# Altium schematic symbol library LDFM33PVR.SchLib: 1 symbol
Pins are listed as number, name and electrical type; pins without a type are passive.

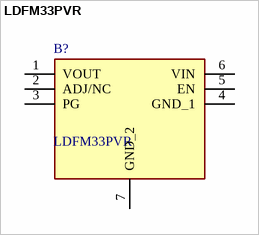
[diagram p0: symbol LDFM33PVR]

## LDFM33PVR
designator B?
LDO Voltage Regulators 500 mA very low drop voltage regulator; Manufacturer_Name: STMicroelectronics; Geometry.Height: 1mm; Mouser Part Number: 511-LDFM33PVR; Mouser Price/Stock: https://www.mouser.co.uk/ProductDetail/STMicroelectronics/LDFM33PVR?qs=qzCNEk%252BRr%252Bbt5RX7rWJkeQ%3D%3D; Manufacturer_Part_Number: LDFM33PVR; Datasheet Link: https://componentsearchengine.com/Datasheets/1/LDFM33PVR.pdf
footprint SON65P200X200X100-7N-D
pins: 1 VOUT, 2 ADJ/NC, 3 PG, 4 GND_1, 5 EN, 6 VIN, 7 GND_2